# Altium schematic symbol library SCH - MCU - STM32 - ST MICROELECTRONICS STM32L462REYX WLCSP64.SchLib: 1 symbol
Pins are listed as number, name and electrical type; pins without a type are passive.

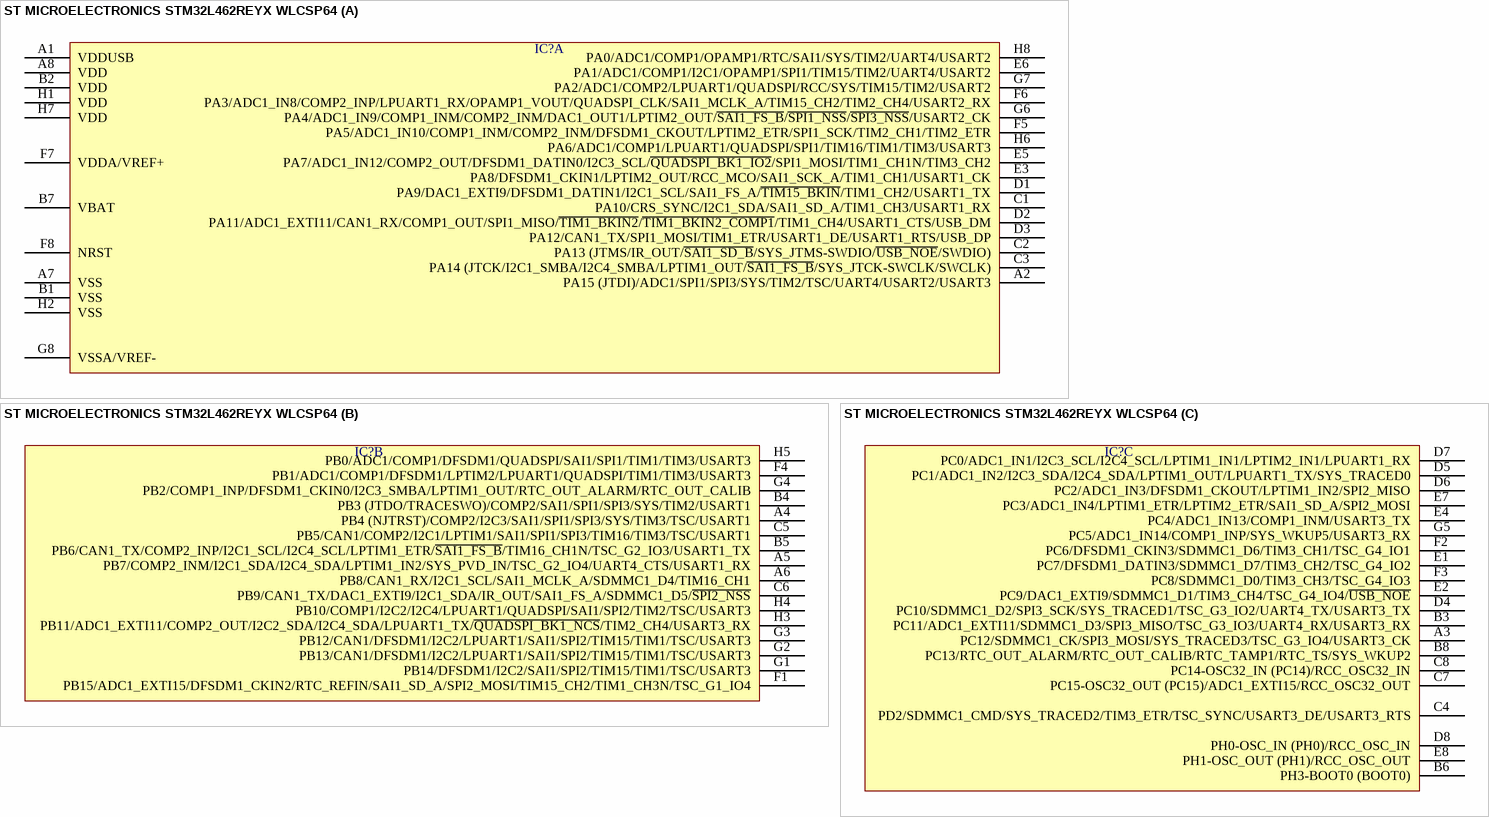
[diagram p0: symbol ST MICROELECTRONICS STM32L462REYX WLCSP64]

## ST MICROELECTRONICS STM32L462REYX WLCSP64
designator IC?  (value not drawn)
part A pins: A1 VDDUSB, A2 PA15 (JTDI)/ADC1/SPI1/SPI3/SYS/TIM2/TSC/UART4/USART2/USART3, A7 VSS, A8 VDD, B1 VSS, B2 VDD, B7 VBAT, C1 PA10/CRS_SYNC/I2C1_SDA/SAI1_SD_A/TIM1_CH3/USART1_RX, C2 PA13 (JTMS/IR_OUT/~{SAI1_SD_B}/SYS_JTMS-SWDIO/~{USB_NOE}/SWDIO), C3 PA14 (JTCK/I2C1_SMBA/I2C4_SMBA/LPTIM1_OUT/~{SAI1_FS_B}/SYS_JTCK-SWCLK/SWCLK), D1 PA9/DAC1_EXTI9/DFSDM1_DATIN1/I2C1_SCL/SAI1_FS_A/~{TIM15_BKIN}/TIM1_CH2/USART1_TX, D2 PA11/ADC1_EXTI11/CAN1_RX/COMP1_OUT/SPI1_MISO/~{TIM1_BKIN2}/~{TIM1_BKIN2_COMP1}/TIM1_CH4/USART1_CTS/USB_DM, D3 PA12/CAN1_TX/SPI1_MOSI/TIM1_ETR/USART1_DE/USART1_RTS/USB_DP, E3 PA8/DFSDM1_CKIN1/LPTIM2_OUT/RCC_MCO/SAI1_SCK_A/TIM1_CH1/USART1_CK, E5 PA7/ADC1_IN12/COMP2_OUT/DFSDM1_DATIN0/I2C3_SCL/~{QUADSPI_BK1_IO2}/SPI1_MOSI/TIM1_CH1N/TIM3_CH2, E6 PA1/ADC1/COMP1/I2C1/OPAMP1/SPI1/TIM15/TIM2/UART4/USART2, F5 PA5/ADC1_IN10/COMP1_INM/COMP2_INM/DFSDM1_CKOUT/LPTIM2_ETR/SPI1_SCK/TIM2_CH1/TIM2_ETR, F6 PA3/ADC1_IN8/COMP2_INP/LPUART1_RX/OPAMP1_VOUT/QUADSPI_CLK/SAI1_MCLK_A/TIM15_CH2/TIM2_CH4/USART2_RX, F7 VDDA/VREF+, F8 NRST, G6 PA4/ADC1_IN9/COMP1_INM/COMP2_INM/DAC1_OUT1/LPTIM2_OUT/~{SAI1_FS_B}/~{SPI1_NSS}/~{SPI3_NSS}/USART2_CK, G7 PA2/ADC1/COMP2/LPUART1/QUADSPI/RCC/SYS/TIM15/TIM2/USART2, G8 VSSA/VREF-, H1 VDD, H2 VSS, H6 PA6/ADC1/COMP1/LPUART1/QUADSPI/SPI1/TIM16/TIM1/TIM3/USART3, H7 VDD, H8 PA0/ADC1/COMP1/OPAMP1/RTC/SAI1/SYS/TIM2/UART4/USART2
part B pins: A4 PB4 (NJTRST)/COMP2/I2C3/SAI1/SPI1/SPI3/SYS/TIM3/TSC/USART1, A5 PB7/COMP2_INM/I2C1_SDA/I2C4_SDA/LPTIM1_IN2/SYS_PVD_IN/TSC_G2_IO4/UART4_CTS/USART1_RX, A6 PB8/CAN1_RX/I2C1_SCL/SAI1_MCLK_A/SDMMC1_D4/TIM16_CH1, B4 PB3 (JTDO/TRACESWO)/COMP2/SAI1/SPI1/SPI3/SYS/TIM2/USART1, B5 PB6/CAN1_TX/COMP2_INP/I2C1_SCL/I2C4_SCL/LPTIM1_ETR/~{SAI1_FS_B}/TIM16_CH1N/TSC_G2_IO3/USART1_TX, C5 PB5/CAN1/COMP2/I2C1/LPTIM1/SAI1/SPI1/SPI3/TIM16/TIM3/TSC/USART1, C6 PB9/CAN1_TX/DAC1_EXTI9/I2C1_SDA/IR_OUT/SAI1_FS_A/SDMMC1_D5/~{SPI2_NSS}, F1 PB15/ADC1_EXTI15/DFSDM1_CKIN2/RTC_REFIN/SAI1_SD_A/SPI2_MOSI/TIM15_CH2/TIM1_CH3N/TSC_G1_IO4, F4 PB1/ADC1/COMP1/DFSDM1/LPTIM2/LPUART1/QUADSPI/TIM1/TIM3/USART3, G1 PB14/DFSDM1/I2C2/SAI1/SPI2/TIM15/TIM1/TSC/USART3, G2 PB13/CAN1/DFSDM1/I2C2/LPUART1/SAI1/SPI2/TIM15/TIM1/TSC/USART3, G3 PB12/CAN1/DFSDM1/I2C2/LPUART1/SAI1/SPI2/TIM15/TIM1/TSC/USART3, G4 PB2/COMP1_INP/DFSDM1_CKIN0/I2C3_SMBA/LPTIM1_OUT/RTC_OUT_ALARM/RTC_OUT_CALIB, H3 PB11/ADC1_EXTI11/COMP2_OUT/I2C2_SDA/I2C4_SDA/LPUART1_TX/~{QUADSPI_BK1_NCS}/TIM2_CH4/USART3_RX, H4 PB10/COMP1/I2C2/I2C4/LPUART1/QUADSPI/SAI1/SPI2/TIM2/TSC/USART3, H5 PB0/ADC1/COMP1/DFSDM1/QUADSPI/SAI1/SPI1/TIM1/TIM3/USART3
part C pins: A3 PC12/SDMMC1_CK/SPI3_MOSI/SYS_TRACED3/TSC_G3_IO4/USART3_CK, B3 PC11/ADC1_EXTI11/SDMMC1_D3/SPI3_MISO/TSC_G3_IO3/UART4_RX/USART3_RX, B6 PH3-BOOT0 (BOOT0), B8 PC13/RTC_OUT_ALARM/RTC_OUT_CALIB/RTC_TAMP1/RTC_TS/SYS_WKUP2, C4 PD2/SDMMC1_CMD/SYS_TRACED2/TIM3_ETR/TSC_SYNC/USART3_DE/USART3_RTS, C7 PC15-OSC32_OUT (PC15)/ADC1_EXTI15/RCC_OSC32_OUT, C8 PC14-OSC32_IN (PC14)/RCC_OSC32_IN, D4 PC10/SDMMC1_D2/SPI3_SCK/SYS_TRACED1/TSC_G3_IO2/UART4_TX/USART3_TX, D5 PC1/ADC1_IN2/I2C3_SDA/I2C4_SDA/LPTIM1_OUT/LPUART1_TX/SYS_TRACED0, D6 PC2/ADC1_IN3/DFSDM1_CKOUT/LPTIM1_IN2/SPI2_MISO, D7 PC0/ADC1_IN1/I2C3_SCL/I2C4_SCL/LPTIM1_IN1/LPTIM2_IN1/LPUART1_RX, D8 PH0-OSC_IN (PH0)/RCC_OSC_IN, E1 PC7/DFSDM1_DATIN3/SDMMC1_D7/TIM3_CH2/TSC_G4_IO2, E2 PC9/DAC1_EXTI9/SDMMC1_D1/TIM3_CH4/TSC_G4_IO4/~{USB_NOE}, E4 PC4/ADC1_IN13/COMP1_INM/USART3_TX, E7 PC3/ADC1_IN4/LPTIM1_ETR/LPTIM2_ETR/SAI1_SD_A/SPI2_MOSI, E8 PH1-OSC_OUT (PH1)/RCC_OSC_OUT, F2 PC6/DFSDM1_CKIN3/SDMMC1_D6/TIM3_CH1/TSC_G4_IO1, F3 PC8/SDMMC1_D0/TIM3_CH3/TSC_G4_IO3, G5 PC5/ADC1_IN14/COMP1_INP/SYS_WKUP5/USART3_RX